# EAGLE library part KSZ8851SNL (library Micrel_By_element14_Batch_1)
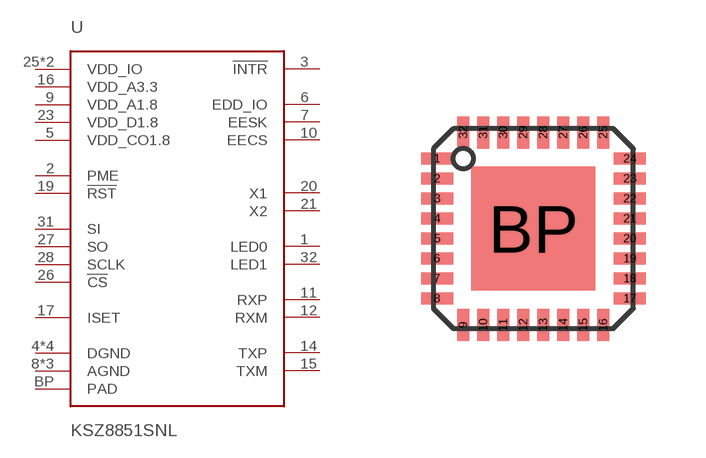
[diagram p15: symbol with the pads of QFN50P500X500X85-32L; footprint QFN50P500X500X85-32L]

Designator prefix U

## KSZ8851SNLI  [QFN50P500X500X85-32L]
1  LED0
2  PME  out
3  !INTR  out
4  DGND  pwr
5  VDD_CO1.8  pwr
6  EDD_IO
7  EESK  out
8  AGND  pwr
9  VDD_A1.8  pwr
10  EECS  out
11  RXP
12  RXM
13  AGND  pwr
14  TXP
15  TXM
16  VDD_A3.3  pwr
17  ISET  out
18  AGND  pwr
19  !RST  in
20  X1  out
21  X2  out
22  DGND  pwr
23  VDD_D1.8  pwr
24  DGND  pwr
25  VDD_IO  pwr
26  !CS  in
27  SO  out
28  SCLK  in
29  DGND  pwr
30  VDD_IO  pwr
31  SI  in
32  LED1
BP  PAD  pwr

## Footprint QFN50P500X500X85-32L (pad centres in mm)
smd 0.8 x 0.3: 1 -2.41,1.75; 2 -2.41,1.25; 3 -2.41,0.75; 4 -2.41,0.25; 5 -2.41,-0.25; 6 -2.41,-0.75; 7 -2.41,-1.25; 8 -2.41,-1.75; 17 2.41,-1.75; 18 2.41,-1.25; 19 2.41,-0.75; 20 2.41,-0.25; 21 2.41,0.25; 22 2.41,0.75; 23 2.41,1.25; 24 2.41,1.75
smd 0.3 x 0.8: 9 -1.75,-2.41; 10 -1.25,-2.41; 11 -0.75,-2.41; 12 -0.25,-2.41; 13 0.25,-2.41; 14 0.75,-2.41; 15 1.25,-2.41; 16 1.75,-2.41; 25 1.75,2.41; 26 1.25,2.41; 27 0.75,2.41; 28 0.25,2.41; 29 -0.25,2.41; 30 -0.75,2.41; 31 -1.25,2.41; 32 -1.75,2.41
smd 3.1 x 3.1: BP 0,0